# Altium footprint library P.PcbLib: 1 footprints
Each footprint in its own frame and in the unit in brackets; x right, y up, seen from the top. Pads: shape width x height; smd on the part's side, far side on the other; paste and mask are expansions set on the pad; w line width, h text height; cw(c..) or ccw(c..) is an arc to the next point about the centre after c.
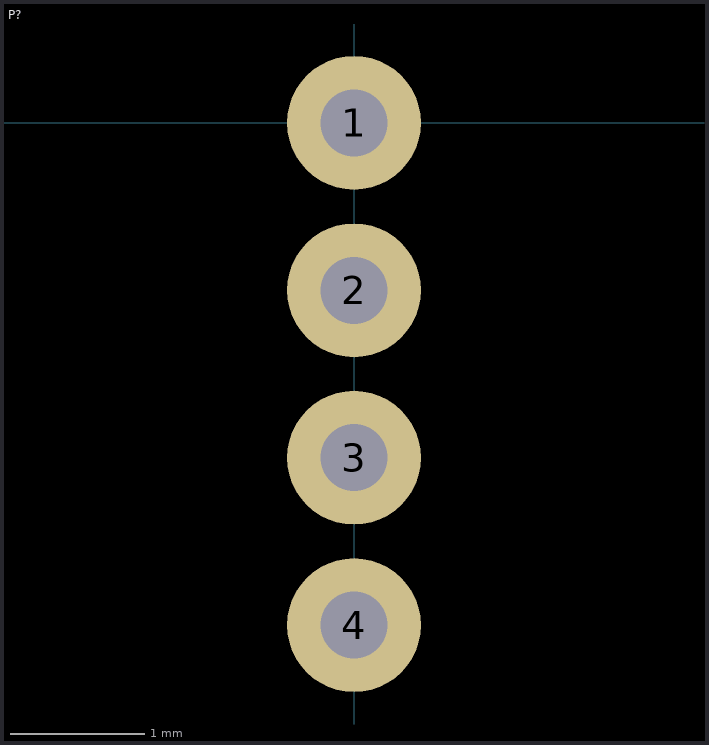
[diagram p0: the footprint, top view; thin cyan lines are the x and y axes]

## P? [mm] "Picoblade connector RA 4 way"
pads (4):
  round 1 hole 0.5: 1(0,0) 2(0,-1.25) 3(0,-2.5) 4(0,-3.75)
3D body "53048-0410_5732.stp": height 3.5, standoff -2.29, extent -1.045,-5.28 4.455,1.47